# EAGLE library part KSZ8041*?L (library KSZ8041)
KSZ8041 10/100 Ethernet PHY NL variant XI/REFCLK (9): MII mode: 25MHz 50ppm crystal RMII mode: 50MHz_REFCLK is an input on pin 9 REFCLK/RXC (19): MII mode: Receive clock output RMII mode: ? RNL variant XI/REFCLK (9): 25MHz 50ppm crystal or oscillator input REFCLK/RXC (19): RMII 50MHz_REFCLK output
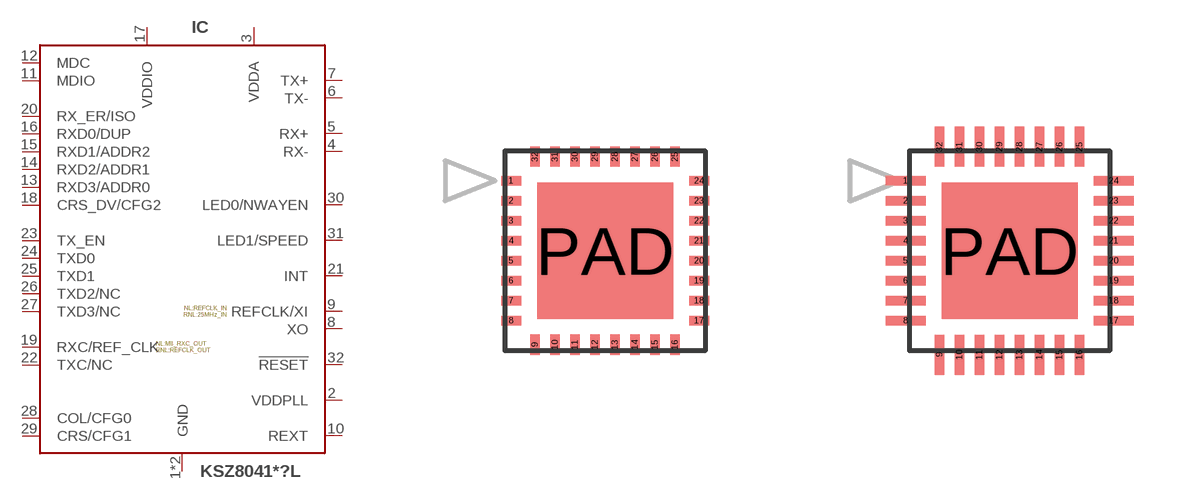
[diagram p0: symbol with the pads of QFN32-5X5-0.5; footprints QFN32-5X5-0.5, QFN32-5X5-0.5-LONGFEET]

Designator prefix IC

## KSZ8041NL (MF: Microchip; MPN: KSZ8041NL), KSZ8041RNL (MF: Microchip; MPN: KSZ8041RNL)  [QFN32-5X5-0.5]
1  GND  pwr
2  VDDPLL  in
3  VDDA  in
4  RX-
5  RX+
6  TX-
7  TX+
8  XO  out
9  REFCLK/XI  in
10  REXT
11  MDIO
12  MDC  in
13  RXD3/ADDR0  in
14  RXD2/ADDR1  in
15  RXD1/ADDR2  out
16  RXD0/DUP  out
17  VDDIO  in
18  CRS_DV/CFG2  out
19  RXC/REF_CLK  out
20  RX_ER/ISO  out
21  INT  out
22  TXC/NC  out
23  TX_EN  in
24  TXD0  in
25  TXD1  in
26  TXD2/NC  in
27  TXD3/NC  in
28  COL/CFG0  in
29  CRS/CFG1  in
30  LED0/NWAYEN
31  LED1/SPEED
32  !RESET  in
PAD  GND  pwr

## KSZ8041ΝL (MF: Microchip; MPN: KSZ8041NL), KSZ8041RΝL (MF: Microchip; MPN: KSZ8041RNL)  [QFN32-5X5-0.5-LONGFEET]
Pads as for QFN32-5X5-0.5

## Footprint QFN32-5X5-0.5 (pad centres in mm)
smd 0.5 x 0.23: 1 -2.35,1.75; 2 -2.35,1.25; 3 -2.35,0.75; 4 -2.35,0.25; 5 -2.35,-0.25; 6 -2.35,-0.75; 7 -2.35,-1.25; 8 -2.35,-1.75; 17 2.35,-1.75; 18 2.35,-1.25; 19 2.35,-0.75; 20 2.35,-0.25; 21 2.35,0.25; 22 2.35,0.75; 23 2.35,1.25; 24 2.35,1.75
smd 0.23 x 0.5: 9 -1.75,-2.35; 10 -1.25,-2.35; 11 -0.75,-2.35; 12 -0.25,-2.35; 13 0.25,-2.35; 14 0.75,-2.35; 15 1.25,-2.35; 16 1.75,-2.35; 25 1.75,2.35; 26 1.25,2.35; 27 0.75,2.35; 28 0.25,2.35; 29 -0.25,2.35; 30 -0.75,2.35; 31 -1.25,2.35; 32 -1.75,2.35
smd 3.4 x 3.4: PAD 0,0

## Footprint QFN32-5X5-0.5-LONGFEET (pad centres in mm)
smd 1 x 0.23: 1 -2.6,1.75; 2 -2.6,1.25; 3 -2.6,0.75; 4 -2.6,0.25; 5 -2.6,-0.25; 6 -2.6,-0.75; 7 -2.6,-1.25; 8 -2.6,-1.75; 17 2.6,-1.75; 18 2.6,-1.25; 19 2.6,-0.75; 20 2.6,-0.25; 21 2.6,0.25; 22 2.6,0.75; 23 2.6,1.25; 24 2.6,1.75
smd 0.23 x 1: 9 -1.75,-2.6; 10 -1.25,-2.6; 11 -0.75,-2.6; 12 -0.25,-2.6; 13 0.25,-2.6; 14 0.75,-2.6; 15 1.25,-2.6; 16 1.75,-2.6; 25 1.75,2.6; 26 1.25,2.6; 27 0.75,2.6; 28 0.25,2.6; 29 -0.25,2.6; 30 -0.75,2.6; 31 -1.25,2.6; 32 -1.75,2.6
smd 3.4 x 3.4: PAD 0,0